# Altium schematic symbol library BB-HEADER-P09-P16.SchLib: 1 symbol
Pins are listed as number, name and electrical type; pins without a type are passive.

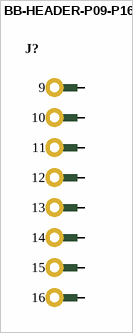
[diagram p0: symbol BB-HEADER-P09-P16]

## BB-HEADER-P09-P16
designator J?  (value not drawn)
BB Header, Vertical, Male, 0.1", 2.54mm, P09-P16
pins: 9, 10, 11, 12, 13, 14, 15, 16